# EAGLE library part MAX5815BAUD+ (library MAX5815BAUD+)
Digital to Analog Converters - DAC MAX5815 Eval Kit Source: Datasheet <https://componentsearchengine.com/Datasheets/1/MAX5815BAUD .pdf>
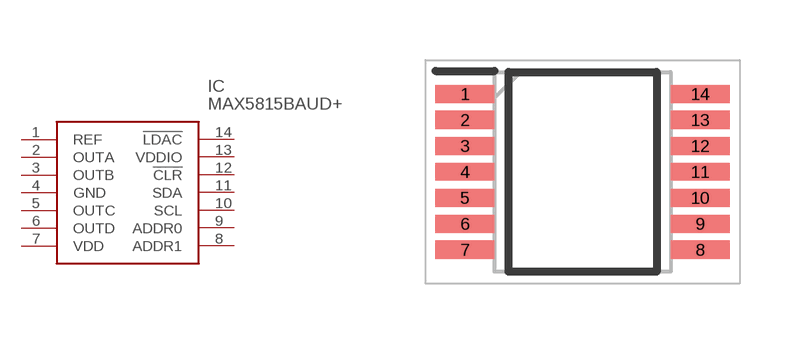
[diagram p0: symbol with the pads of SOP65P640X110-14N; footprint SOP65P640X110-14N]

Designator prefix IC

## MAX5815BAUD+ (Description: Digital to Analog Converters - DAC MAX5815 Eval Kit; Height: 1.1mm; Manufacturer_Name: Maxim Integrated; Manufacturer_Part_Number: MAX5815BAUD+; Mouser_Part_Number: 700-MAX5815BAUD+; Mouser_Price-Stock: https://www.mouser.com/Search/Refine.aspx?Keyword=700-MAX5815BAUD%2B)  [SOP65P640X110-14N]
1  REF
2  OUTA
3  OUTB
4  GND
5  OUTC
6  OUTD
7  VDD
8  ADDR1
9  ADDR0
10  SCL
11  SDA
12  !CLR
13  VDDIO
14  !LDAC

## Footprint SOP65P640X110-14N (pad centres in mm)
TSSOP
smd 1.475 x 0.45: 1 -2.938,1.95; 2 -2.938,1.3; 3 -2.938,0.65; 4 -2.938,0; 5 -2.938,-0.65; 6 -2.938,-1.3; 7 -2.938,-1.95; 8 2.938,-1.95; 9 2.938,-1.3; 10 2.938,-0.65; 11 2.938,0; 12 2.938,0.65; 13 2.938,1.3; 14 2.938,1.95